# Altium schematic symbol library Integrated_circuits.SchLib: 17 symbols
Pins are listed as number, name and electrical type; pins without a type are passive.

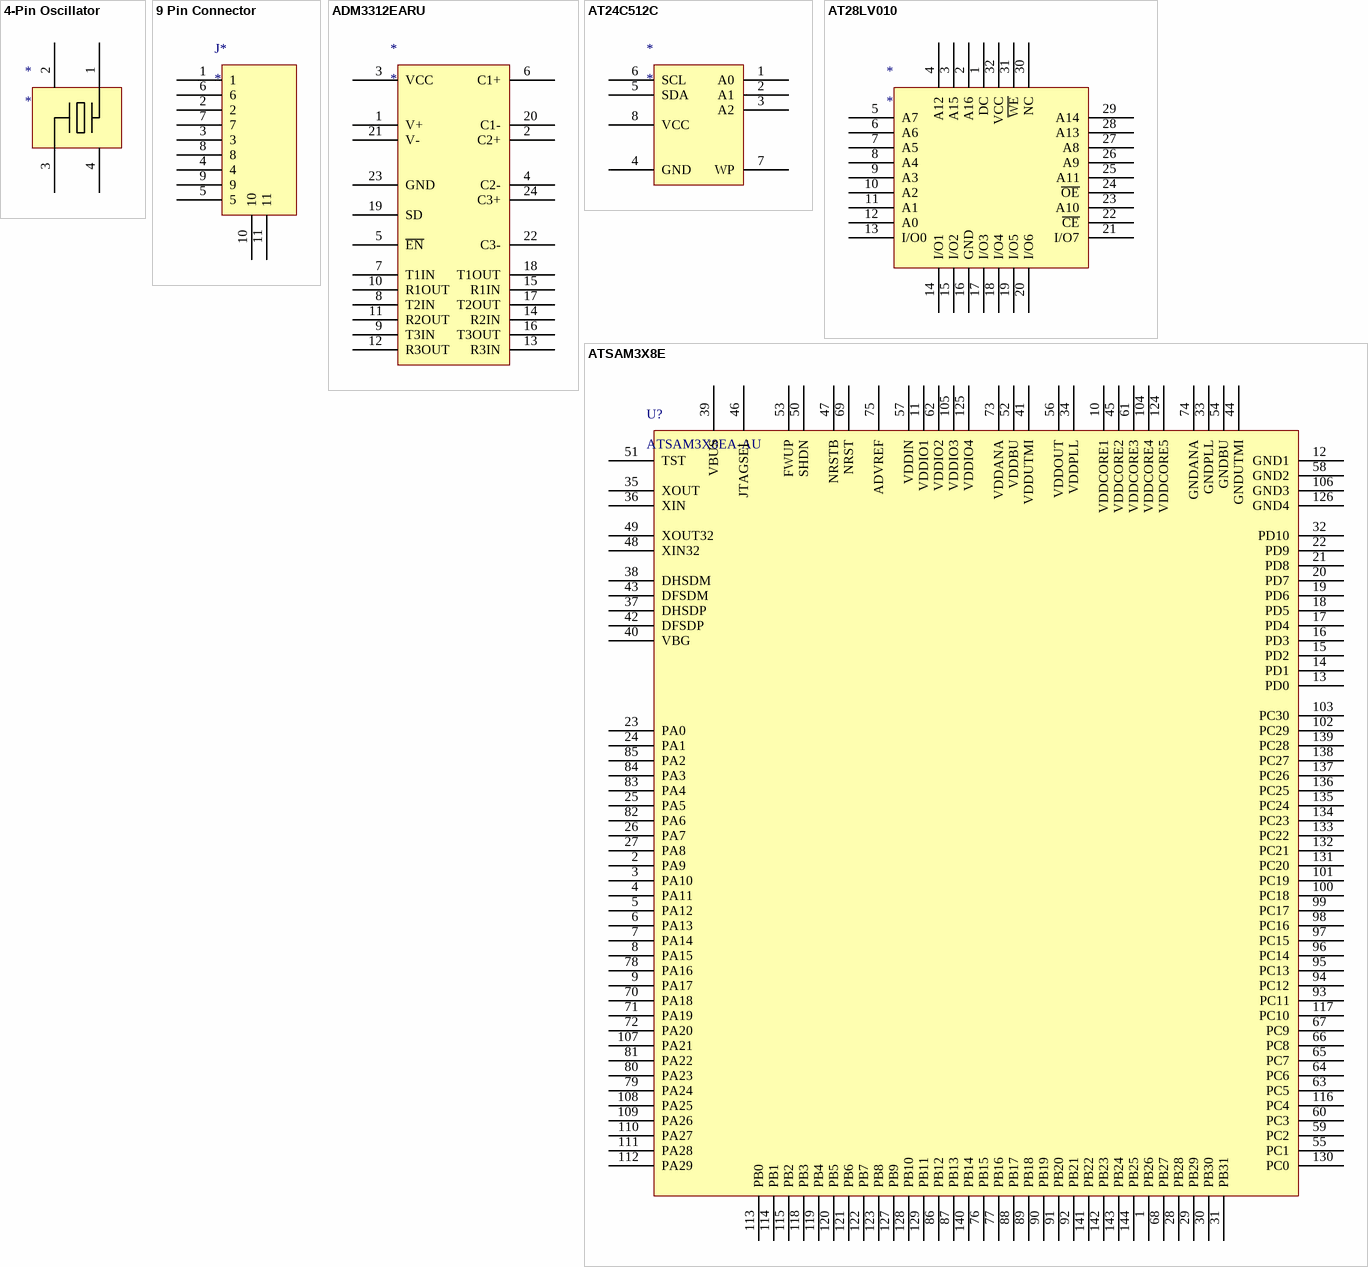
[diagram p0: symbols 4-Pin Oscillator to ATSAM3X8E]

## 4-Pin Oscillator
designator *
footprint FA128
pins: 1, 2, 3, 4

## 9 Pin Connector
designator J*
pins: 1, 2, 3, 4, 5, 6, 7, 8, 9, 10, 11

## ADM3312EARU
designator *
Digikey Number: ADM3312EARUZ-ND
footprint TSOP65P640X120-24N (TSOP, 24-Leads, Body 7.80x4.40mm, Pitch 0.65mm, IPC Medium Density)
pins: 1 V+, 2 C2+, 3 VCC, 4 C2-, 5 ~{EN}, 6 C1+, 7 T1IN, 8 T2IN, 9 T3IN, 10 R1OUT, 11 R2OUT, 12 R3OUT, 13 R3IN, 14 R2IN, 15 R1IN, 16 T3OUT, 17 T2OUT, 18 T1OUT, 19 SD, 20 C1-, 21 V-, 22 C3-, 23 GND, 24 C3+

## AT24C512C
designator *
Digikey Number: AT24C512C-SSHD-TCT-ND
footprint AT24C512C (SOIC, 8-Leads, Body 4.92x3.90mm, Pitch 1.27mm, IPC Medium Density)
pins: 1 A0, 2 A1, 3 A2, 4 GND, 5 SDA, 6 SCL, 7 WP, 8 VCC

## AT28LV010
designator *
Digi-Key Part Number AT28LV010-20JU-ND
footprint PLCC127P1245X1499X356-36N (Leaded Chip Carrier, 36-Leads, Body 12.45x14.99mm, Pitch 1.270mm, IPC Medium Density)
pins: 1 DC, 2 A16, 3 A15, 4 A12, 5 A7, 6 A6, 7 A5, 8 A4, 9 A3, 10 A2, 11 A1, 12 A0, 13 I/O0, 14 I/O1, 15 I/O2, 16 GND, 17 I/O3, 18 I/O4, 19 I/O5, 20 I/O6, 21 I/O7, 22 ~{CE}, 23 A10, 24 ~{OE}, 25 A11, 26 A9, 27 A8, 28 A13, 29 A14, 30 NC, 31 ~{WE}, 32 VCC

## ATSAM3X8E
designator U?, comment ATSAM3X8EA-AU
ATSAM3X8EA-AU ARM CORTEX M3 Microcontroller
footprint LQFP144_M (Thin QFP, 144-Leads, Body 20x20mm, Pitch 0.5mm, IPC Low Density)
footprint LQFP144_M (Thin QFP, 144-Leads, Body 20x20mm, Pitch 0.5mm, IPC Low Density)
pins: 1 PB26, 2 PA9, 3 PA10, 4 PA11, 5 PA12, 6 PA13, 7 PA14, 8 PA15, 9 PA17, 10 VDDCORE1 (power), 11 VDDIO1 (power), 12 GND1 (power), 13 PD0, 14 PD1, 15 PD2, 16 PD3, 17 PD4, 18 PD5, 19 PD6, 20 PD7, 21 PD8, 22 PD9, 23 PA0, 24 PA1, 25 PA5, 26 PA7, 27 PA8, 28 PB28, 29 PB29, 30 PB30, 31 PB31, 32 PD10, 33 GNDPLL (power), 34 VDDPLL (power), 35 XOUT, 36 XIN, 37 DHSDP, 38 DHSDM, 39 VBUS (power), 40 VBG, 41 VDDUTMI (power), 42 DFSDP, 43 DFSDM, 44 GNDUTMI (power), 45 VDDCORE2 (power), 46 JTAGSEL, 47 NRSTB, 48 XIN32, 49 XOUT32, 50 SHDN, 51 TST, 52 VDDBU (power), 53 FWUP, 54 GNDBU (power), 55 PC1, 56 VDDOUT (power), 57 VDDIN (power), 58 GND2 (power), 59 PC2, 60 PC3, 61 VDDCORE3 (power), 62 VDDIO2 (power), 63 PC5, 64 PC6, 65 PC7, 66 PC8, 67 PC9, 68 PB27, 69 NRST, 70 PA18, 71 PA19, 72 PA20, 73 VDDANA (power), 74 GNDANA (power), 75 ADVREF, 76 PB15, 77 PB16, 78 PA16, 79 PA24, 80 PA23, 81 PA22, 82 PA6, 83 PA4, 84 PA3, 85 PA2, 86 PB12, 87 PB13, 88 PB17, 89 PB18, 90 PB19, 91 PB20, 92 PB21, 93 PC11, 94 PC12, 95 PC13, 96 PC14, 97 PC15, 98 PC16, 99 PC17, 100 PC18, 101 PC19, 102 PC29, 103 PC30, 104 VDDCORE4 (power), 105 VDDIO3 (power), 106 GND3 (power), 107 PA21, 108 PA25, 109 PA26, 110 PA27, 111 PA28, 112 PA29, 113 PB0, 114 PB1, 115 PB2, 116 PC4, 117 PC10, 118 PB3, 119 PB4, 120 PB5, 121 PB6, 122 PB7, 123 PB8, 124 VDDCORE5 (power), 125 VDDIO4 (power), 126 GND4 (power), 127 PB9, 128 PB10, 129 PB11, 130 PC0, 131 PC20, 132 PC21, 133 PC22, 134 PC23, 135 PC24, 136 PC25, 137 PC26, 138 PC27, 139 PC28, 140 PB14, 141 PB22, 142 PB23, 143 PB24, 144 PB25

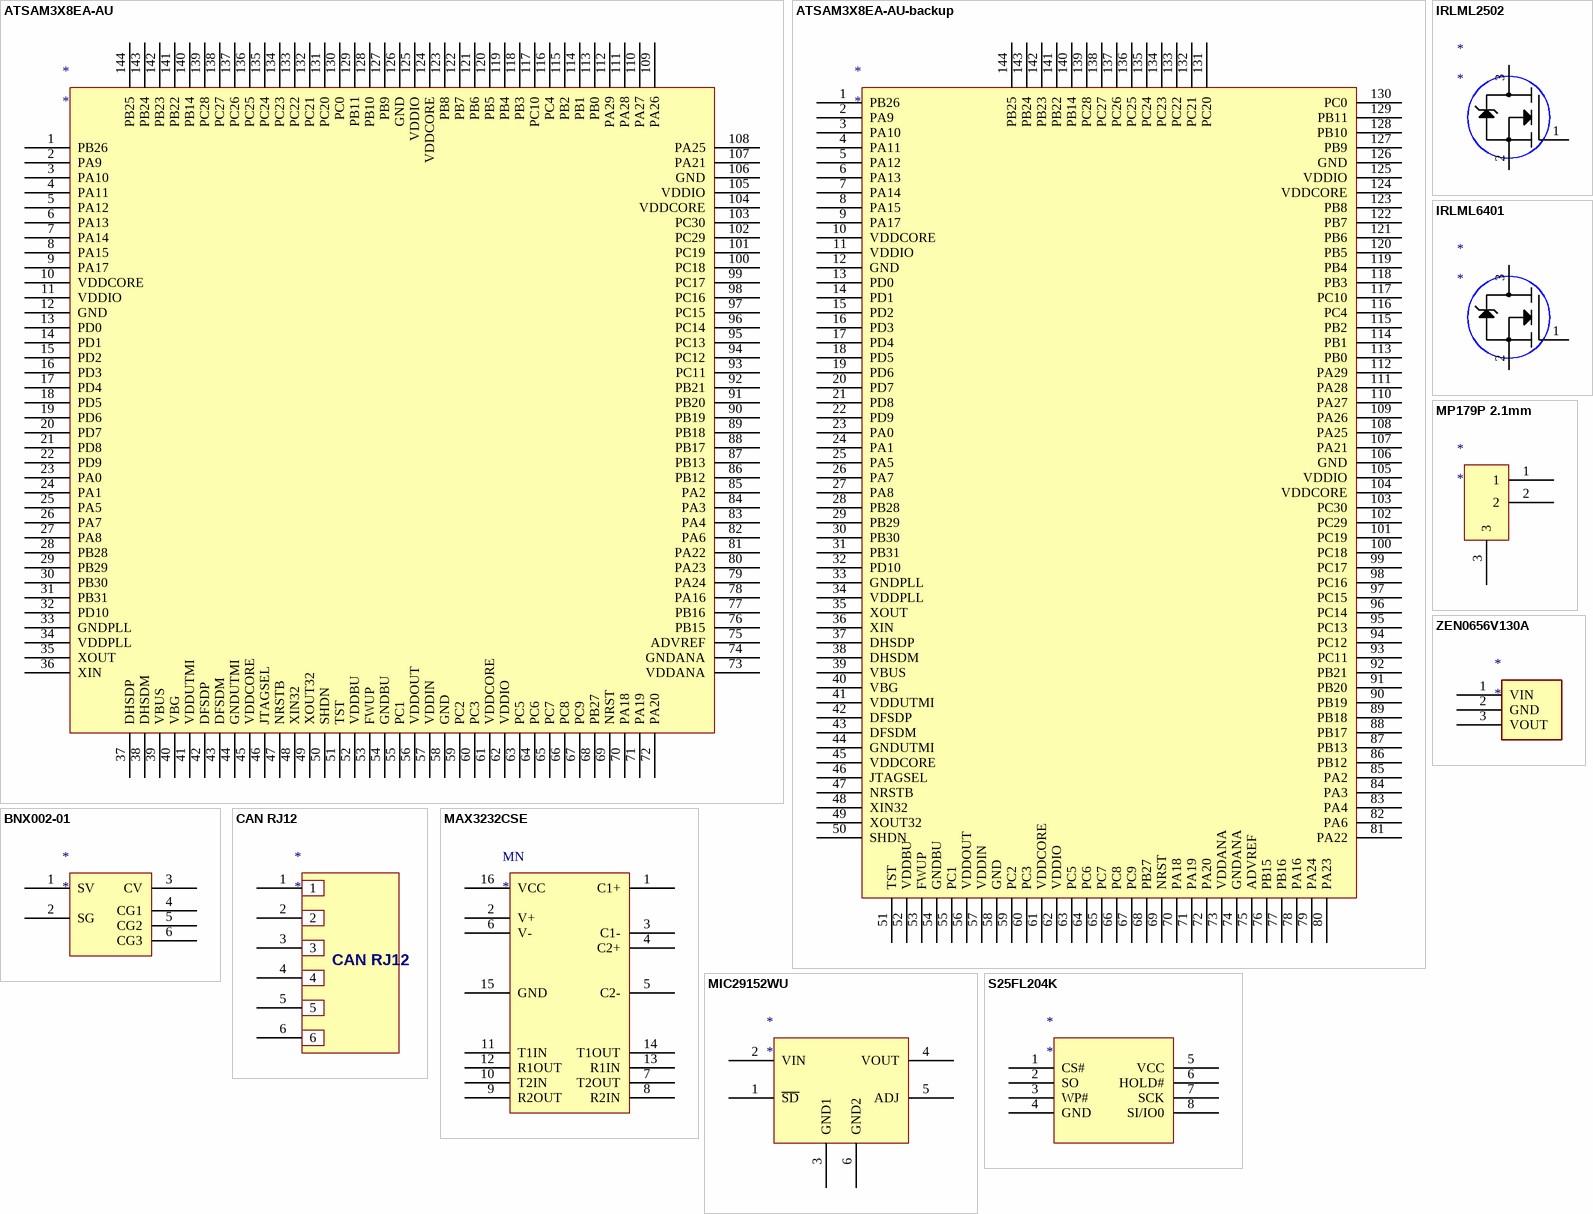
[diagram p1: symbols ATSAM3X8EA-AU to ZEN0656V130A]

## ATSAM3X8EA-AU
designator *
pins: 1 PB26, 2 PA9, 3 PA10, 4 PA11, 5 PA12, 6 PA13, 7 PA14, 8 PA15, 9 PA17, 10 VDDCORE, 11 VDDIO, 12 GND, 13 PD0, 14 PD1, 15 PD2, 16 PD3, 17 PD4, 18 PD5, 19 PD6, 20 PD7, 21 PD8, 22 PD9, 23 PA0, 24 PA1, 25 PA5, 26 PA7, 27 PA8, 28 PB28, 29 PB29, 30 PB30, 31 PB31, 32 PD10, 33 GNDPLL, 34 VDDPLL, 35 XOUT, 36 XIN, 37 DHSDP, 38 DHSDM, 39 VBUS, 40 VBG, 41 VDDUTMI, 42 DFSDP, 43 DFSDM, 44 GNDUTMI, 45 VDDCORE, 46 JTAGSEL, 47 NRSTB, 48 XIN32, 49 XOUT32, 50 SHDN, 51 TST, 52 VDDBU, 53 FWUP, 54 GNDBU, 55 PC1, 56 VDDOUT, 57 VDDIN, 58 GND, 59 PC2, 60 PC3, 61 VDDCORE, 62 VDDIO, 63 PC5, 64 PC6, 65 PC7, 66 PC8, 67 PC9, 68 PB27, 69 NRST, 70 PA18, 71 PA19, 72 PA20, 73 VDDANA, 74 GNDANA, 75 ADVREF, 76 PB15, 77 PB16, 78 PA16, 79 PA24, 80 PA23, 81 PA22, 82 PA6, 83 PA4, 84 PA3, 85 PA2, 86 PB12, 87 PB13, 88 PB17, 89 PB18, 90 PB19, 91 PB20, 92 PB21, 93 PC11, 94 PC12, 95 PC13, 96 PC14, 97 PC15, 98 PC16, 99 PC17, 100 PC18, 101 PC19, 102 PC29, 103 PC30, 104 VDDCORE, 105 VDDIO, 106 GND, 107 PA21, 108 PA25, 109 PA26, 110 PA27, 111 PA28, 112 PA29, 113 PB0, 114 PB1, 115 PB2, 116 PC4, 117 PC10, 118 PB3, 119 PB4, 120 PB5, 121 PB6, 122 PB7, 123 PB8, 124 VDDCORE, 125 VDDIO, 126 GND, 127 PB9, 128 PB10, 129 PB11, 130 PC0, 131 PC20, 132 PC21, 133 PC22, 134 PC23, 135 PC24, 136 PC25, 137 PC26, 138 PC27, 139 PC28, 140 PB14, 141 PB22, 142 PB23, 143 PB24, 144 PB25

## ATSAM3X8EA-AU-backup
designator *
pins: 1 PB26, 2 PA9, 3 PA10, 4 PA11, 5 PA12, 6 PA13, 7 PA14, 8 PA15, 9 PA17, 10 VDDCORE, 11 VDDIO, 12 GND, 13 PD0, 14 PD1, 15 PD2, 16 PD3, 17 PD4, 18 PD5, 19 PD6, 20 PD7, 21 PD8, 22 PD9, 23 PA0, 24 PA1, 25 PA5, 26 PA7, 27 PA8, 28 PB28, 29 PB29, 30 PB30, 31 PB31, 32 PD10, 33 GNDPLL, 34 VDDPLL, 35 XOUT, 36 XIN, 37 DHSDP, 38 DHSDM, 39 VBUS, 40 VBG, 41 VDDUTMI, 42 DFSDP, 43 DFSDM, 44 GNDUTMI, 45 VDDCORE, 46 JTAGSEL, 47 NRSTB, 48 XIN32, 49 XOUT32, 50 SHDN, 51 TST, 52 VDDBU, 53 FWUP, 54 GNDBU, 55 PC1, 56 VDDOUT, 57 VDDIN, 58 GND, 59 PC2, 60 PC3, 61 VDDCORE, 62 VDDIO, 63 PC5, 64 PC6, 65 PC7, 66 PC8, 67 PC9, 68 PB27, 69 NRST, 70 PA18, 71 PA19, 72 PA20, 73 VDDANA, 74 GNDANA, 75 ADVREF, 76 PB15, 77 PB16, 78 PA16, 79 PA24, 80 PA23, 81 PA22, 82 PA6, 83 PA4, 84 PA3, 85 PA2, 86 PB12, 87 PB13, 88 PB17, 89 PB18, 90 PB19, 91 PB20, 92 PB21, 93 PC11, 94 PC12, 95 PC13, 96 PC14, 97 PC15, 98 PC16, 99 PC17, 100 PC18, 101 PC19, 102 PC29, 103 PC30, 104 VDDCORE, 105 VDDIO, 106 GND, 107 PA21, 108 PA25, 109 PA26, 110 PA27, 111 PA28, 112 PA29, 113 PB0, 114 PB1, 115 PB2, 116 PC4, 117 PC10, 118 PB3, 119 PB4, 120 PB5, 121 PB6, 122 PB7, 123 PB8, 124 VDDCORE, 125 VDDIO, 126 GND, 127 PB9, 128 PB10, 129 PB11, 130 PC0, 131 PC20, 132 PC21, 133 PC22, 134 PC23, 135 PC24, 136 PC25, 137 PC26, 138 PC27, 139 PC28, 140 PB14, 141 PB22, 142 PB23, 143 PB24, 144 PB25

## BNX002-01
designator *
Digikey number: 490-5053-ND
pins: 1 SV, 2 SG, 3 CV, 4 CG1, 5 CG2, 6 CG3

## CAN RJ12
designator *
pins: 1, 2, 3, 4, 5, 6

## IRLML2502
designator *
DigiKey Part no: IRLML2502PBFCT-ND
footprint 3 Pin SOT-23 (SOT23, 3-Leads, Body 2.92x2.37mm, Pitch 0.95mm, IPC Medium Density;)
pins: 1 G "Gate", 2 S "Source", 3 D "Drain"

## IRLML6401
designator *
Digikey Part Number: IRLML6401PBFCT-ND
footprint 3 Pin SOT-23 (SOT23, 3-Leads, Body 2.92x2.37mm, Pitch 0.95mm, IPC Medium Density;)
pins: 1 G "Gate", 2 S "Source", 3 D "Drain"

## MAX3232CSE
designator MN
Digikey Number: MAX3232CSE+-ND
footprint SOIC127P570X175-16N (SOIC, 16-Leads, Body 9.90x4.20mm, Pitch 1.27mm, IPC Medium Density)
pins: 1 C1+, 2 V+, 3 C1-, 4 C2+, 5 C2-, 6 V-, 7 T2OUT, 8 R2IN, 9 R2OUT, 10 T2IN, 11 T1IN, 12 R1OUT, 13 R1IN, 14 T1OUT, 15 GND, 16 VCC

## MIC29152WU
designator *
Digikey Number: 576-1112-1-ND
footprint MIC29152
footprint MIC29152WU
pins: 1 ~{SD}, 2 VIN, 3 GND1, 4 VOUT, 5 ADJ, 6 GND2

## MP179P 2.1mm
designator *
Digi-Key Part Number CP-002AHPJCT-ND
footprint 2.1mm Jack
pins: 1, 2, 3

## S25FL204K
designator *
footprint SOIC127P600X175-8N (SOIC, 8-Leads, Body 4.90x3.90mm, Pitch 1.27mm, IPC Medium Density)
pins: 1 CS#, 2 SO, 3 WP#, 4 GND, 5 VCC, 6 HOLD#, 7 SCK, 8 SI/IO0

## ZEN0656V130A
designator *
Digikey No: ZEN056V130A24LSCT-ND
footprint ZEN056V130A24L
pins: 1 VIN, 2 GND, 3 VOUT